# Altium integrated library TIP147.IntLib: 1 symbol
Pins are listed as number, name and electrical type; pins without a type are passive.

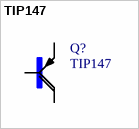
[diagram p0: symbol TIP147]

## TIP147
designator Q?
Transistor PNP Darlington TIP147 POWER INNOVATION Ampere=10 V=100 TO3P; MF: ON Semiconductor; Package: TO-247-3 Bourns; Availability: Unavailable; MP: TIP147; Price: 0.93 USD; SnapEDA_Link: https://www.snapeda.com/parts/TIP147/ON%20Semiconductor/view-part/?ref=snap; Value: *
footprint SOT93_TIP147(Primary)
pins: B, C, E